# EAGLE library part TI-LMH6552 (library EagleLibrary)
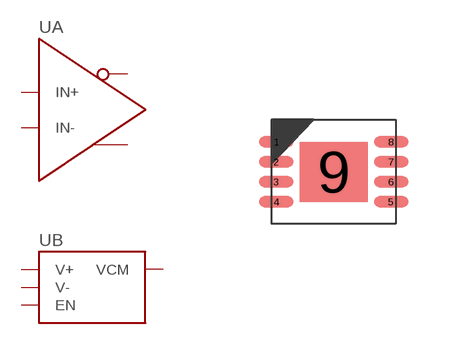
[diagram p25: symbol with the pads of TI-LMH6552; footprint TI-LMH6552]

Designator prefix U; gates A=TI-LMH6552-A B=TI-LMH6552-B

## TI-LMH6552 (MFG: Texas Instruments)  [TI-LMH6552]
1  A:IN-
2  B:VCM
3  B:V+
4  A:OUT+
5  A:OUT-
6  B:V-
7  B:EN
8  A:IN+
9  B:V-

## Footprint TI-LMH6552 (pad centres in mm)
8-SON (DFN), 0.50 mm pitch, 2.50 X 3.00 X 0.80 mm body, 1.50 X 1.70 mm thermal pad 8-pin SON (DFN) package with 0.50 mm pitch with body size 2.50 X 3.00 X 0.80 mm and thermal pad size 1.50 X 1.70 mm
smd 0.86 x 0.27: 1 -1.435,0.75; 2 -1.435,0.25; 3 -1.435,-0.25; 4 -1.435,-0.75; 5 1.435,-0.75; 6 1.435,-0.25; 7 1.435,0.25; 8 1.435,0.75
smd 1.7 x 1.5: 9 0,0